# Altium schematic symbol library BIDIR_PIN.SchLib: 1 symbol
Pins are listed as number, name and electrical type; pins without a type are passive.

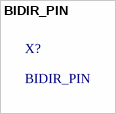
[diagram p0: symbol BIDIR_PIN]

## BIDIR_PIN
designator X?
Bidirectional pin test